# Altium footprint library WR-WTB_2.50mm.PcbLib: 24 footprints (part 1 of 2)
Each footprint in its own frame and in the unit in brackets; x right, y up, seen from the top. Pads: shape width x height; smd on the part's side, far side on the other; paste and mask are expansions set on the pad; w line width, h text height; cw(c..) or ccw(c..) is an arc to the next point about the centre after c.
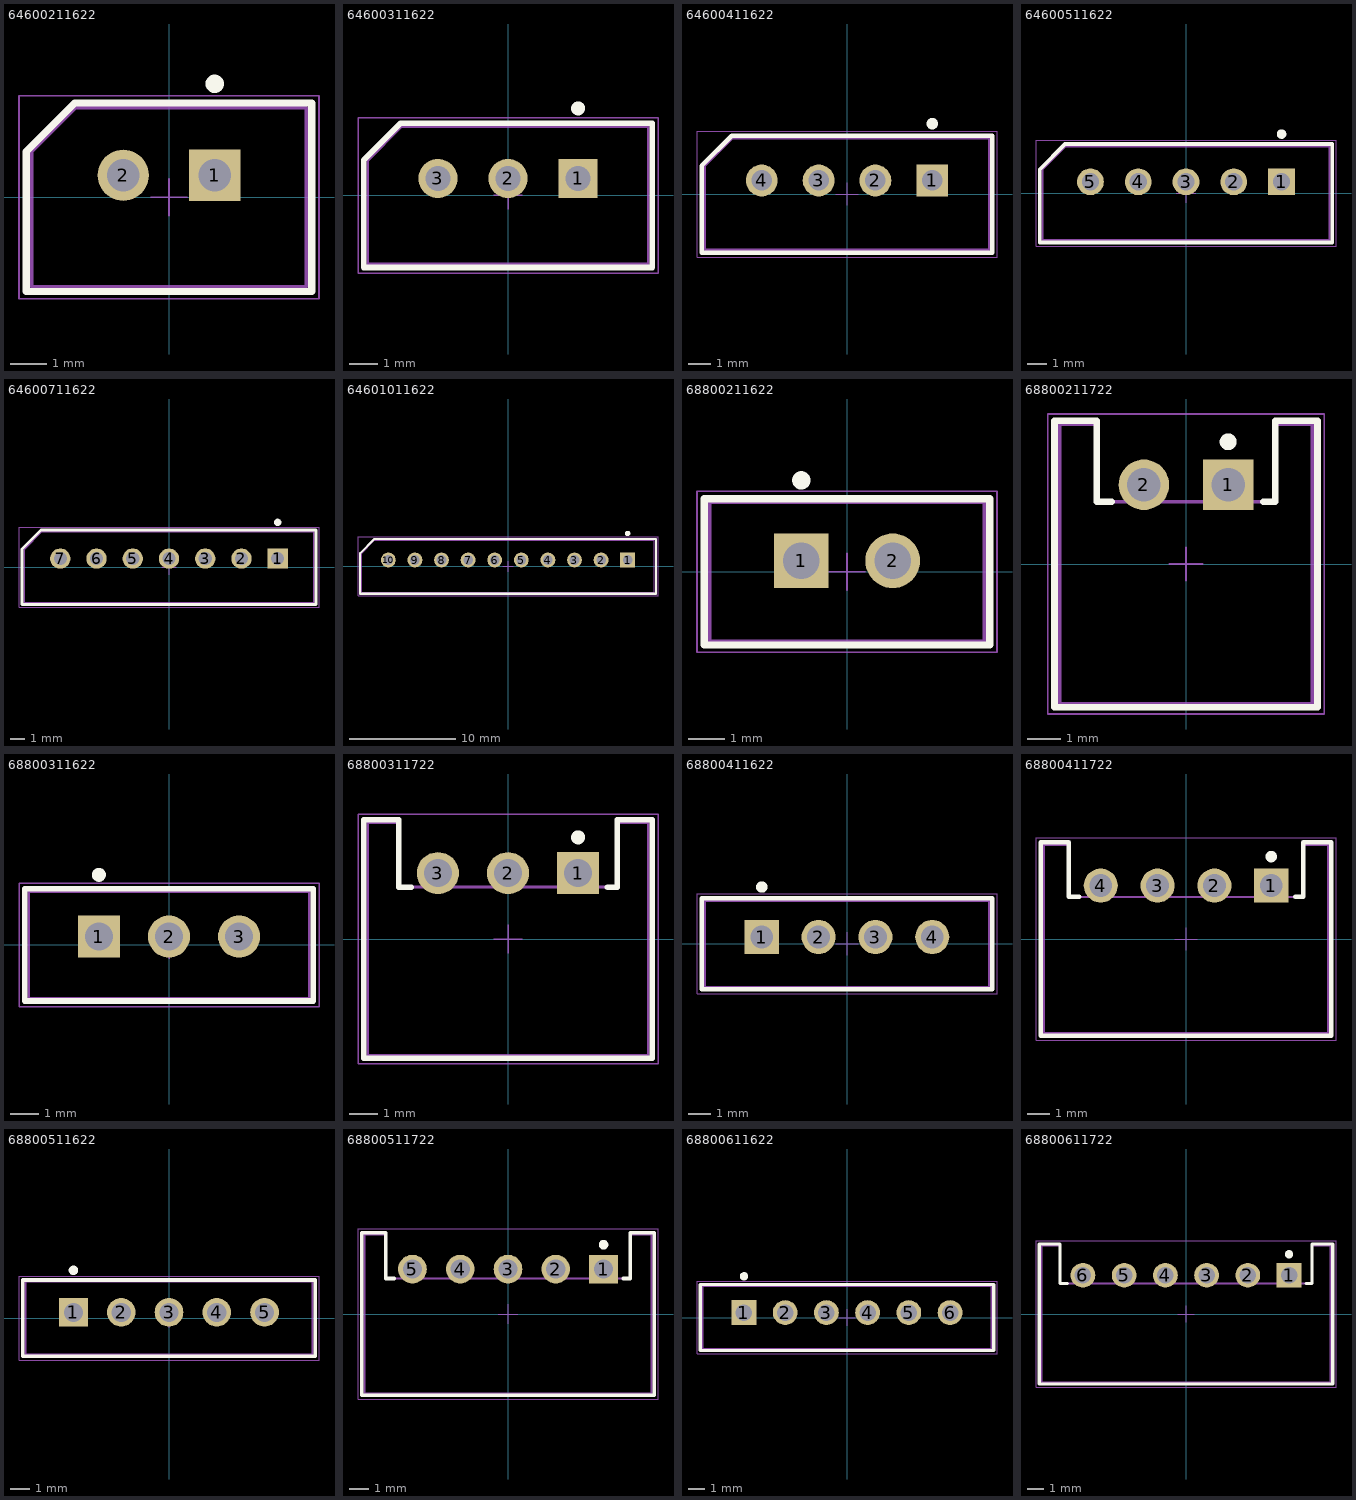
[diagram p0: the footprints below, top view; thin cyan lines are the x and y axes]

## 64600211622 [mm] "2.50mm Male Shrouded Header, 2p"
height 5.9
pads (2):
  rect 1.4x1.4 hole 0.9: 1(1.25,0.6)
  round 1.4 hole 0.9: 2(-1.25,0.6)
Top Overlay:
  circle w0.25: c1.25,3.1 r0.125
  lines w0.2: -3.9,-2.575 3.9,-2.575 3.9,2.575 -2.575,2.575 -3.9,1.25 -3.9,-2.575
Mechanical 13:
  lines w0.1: -3.75,-2.45 -3.75,1.25 -2.55,2.45 3.75,2.45 3.75,-2.45 -3.75,-2.45
Mechanical 15:
  lines w0.05: -0.5,0 0.5,0 ; 0,-0.5 0,0.5 ; -4.1,-2.775 -4.1,2.775 4.1,2.775 4.1,-2.775 -4.1,-2.775
3D body "64600211622 (rev1).stp": height 5.93, standoff -3.47, extent -3.7,-2.45 3.7,2.45

## 64600311622 [mm] "2.50mm Male Shrouded Header, 3p"
height 5.9
pads (3):
  rect 1.4x1.4 hole 0.9: 1(2.5,0.6)
  round 1.4 hole 0.9: 2(0,0.6) 3(-2.5,0.6)
Top Overlay:
  circle w0.25: c2.5,3.1 r0.125
  lines w0.2: -5.15,-2.575 -5.15,1.25 -3.825,2.575 5.15,2.575 5.15,-2.575 -5.15,-2.575
Mechanical 13:
  lines w0.1: -5,-2.45 5,-2.45 5,2.45 -3.8,2.45 -5,1.25 -5,-2.45
Mechanical 15:
  lines w0.05: -0.5,0 0.5,0 ; 0,-0.5 0,0.5 ; -5.35,-2.775 5.35,-2.775 5.35,2.775 -5.35,2.775 -5.35,-2.775
3D body "64600311622 (rev1).stp": height 5.93, standoff -3.47, extent -4.95,-2.45 4.95,2.45

## 64600411622 [mm] "2.50mm Male Shrouded Header, 4p"
height 5.9
pads (4):
  rect 1.4x1.4 hole 0.9: 1(3.75,0.6)
  round 1.4 hole 0.9: 2(1.25,0.6) 3(-1.25,0.6) 4(-3.75,0.6)
Top Overlay:
  circle w0.25: c3.75,3.1 r0.125
  lines w0.2: -6.4,-2.575 6.4,-2.575 6.4,2.575 -5.075,2.575 -6.4,1.25 -6.4,-2.575
Mechanical 13:
  lines w0.1: -6.25,-2.45 -6.25,1.25 -5.05,2.45 6.25,2.45 6.25,-2.45 -6.25,-2.45
Mechanical 15:
  lines w0.05: -0.5,0 0.5,0 ; 0,-0.5 0,0.5 ; -6.6,-2.775 -6.6,2.775 6.6,2.775 6.6,-2.775 -6.6,-2.775
3D body "64600411622 (rev1).stp": height 5.93, standoff -3.47, extent -6.2,-2.45 6.2,2.45

## 64600511622 [mm] "2.50mm Male Shrouded Header, 5p"
height 5.9
pads (5):
  rect 1.4x1.4 hole 0.9: 1(5,0.6)
  round 1.4 hole 0.9: 2(2.5,0.6) 3(0,0.6) 4(-2.5,0.6) 5(-5,0.6)
Top Overlay:
  circle w0.25: c5,3.1 r0.125
  lines w0.2: -7.65,-2.575 7.65,-2.575 7.65,2.575 -6.325,2.575 -7.65,1.25 -7.65,-2.575
Mechanical 13:
  lines w0.1: -7.5,-2.45 7.5,-2.45 7.5,2.45 -6.3,2.45 -7.5,1.25 -7.5,-2.45
Mechanical 15:
  lines w0.05: -0.5,0 0.5,0 ; 0,-0.5 0,0.5 ; -7.85,-2.775 -7.85,2.775 7.85,2.775 7.85,-2.775 -7.85,-2.775
3D body "64600511622 (rev1).stp": height 5.93, standoff -3.47, extent -7.45,-2.45 7.45,2.45

## 64600711622 [mm] "2.50mm Male Shrouded Header, 7p"
height 5.9
pads (7):
  rect 1.4x1.4 hole 0.9: 1(7.5,0.6)
  round 1.4 hole 0.9: 2(5,0.6) 3(2.5,0.6) 4(0,0.6) 5(-2.5,0.6) 6(-5,0.6) 7(-7.5,0.6)
Top Overlay:
  circle w0.25: c7.5,3.1 r0.125
  lines w0.2: -10.15,-2.575 -10.15,1.25 -8.825,2.575 10.15,2.575 10.15,-2.575 -10.15,-2.575
Mechanical 13:
  lines w0.1: -10,-2.45 10,-2.45 10,2.45 -8.8,2.45 -10,1.25 -10,-2.45
Mechanical 15:
  lines w0.05: -0.5,0 0.5,0 ; 0,-0.5 0,0.5 ; -10.35,-2.775 10.35,-2.775 10.35,2.775 -10.35,2.775 -10.35,-2.775
3D body "64600711622 (rev1).stp": height 5.93, standoff -3.47, extent -9.95,-2.45 9.95,2.45

## 64601011622 [mm] "2.50mm Male Shrouded Header, 10p"
height 5.9
pads (10):
  rect 1.4x1.4 hole 0.9: 1(11.25,0.6)
  round 1.4 hole 0.9: 2(8.75,0.6) 3(6.25,0.6) 4(3.75,0.6) 5(1.25,0.6) 6(-1.25,0.6) 7(-3.75,0.6) 8(-6.25,0.6) 9(-8.75,0.6) 10(-11.25,0.6)
Top Overlay:
  circle w0.25: c11.25,3.1 r0.125
  lines w0.2: -13.9,-2.575 -13.9,1.25 -12.575,2.575 13.9,2.575 13.9,-2.575 -13.9,-2.575
Mechanical 13:
  lines w0.1: -13.75,-2.45 13.75,-2.45 13.75,2.45 -12.55,2.45 -13.75,1.25 -13.75,-2.45
Mechanical 15:
  lines w0.05: -0.5,0 0.5,0 ; 0,-0.5 0,0.5 ; -14.1,-2.775 14.1,-2.775 14.1,2.775 -14.1,2.775 -14.1,-2.775
3D body "64601011622 (rev1).stp": height 5.93, standoff -3.47, extent -13.7,-2.45 13.7,2.45

## 68800211622 [mm] "2.50mm Ў°JЎ± Type Vertical Male Shrouded Header, 2p"
height 6
pads (2):
  rect 1.5x1.5 hole 1: 1(-1.25,0.3)
  round 1.5 hole 1: 2(1.25,0.3)
Top Overlay:
  circle w0.25: c-1.25,2.5 r0.125
  lines w0.2: -3.9,-2 -3.9,2 3.9,2 3.9,-2 -3.9,-2
Mechanical 13:
  lines w0.1: -3.75,-1.9 3.75,-1.9 3.75,1.9 -3.75,1.9 -3.75,-1.9
Mechanical 15:
  lines w0.05: -0.5,0 0.5,0 ; 0,-0.5 0,0.5 ; -4.1,-2.2 -4.1,2.2 4.1,2.2 4.1,-2.2 -4.1,-2.2
3D body "68800211622.stp": height 6.03, standoff -3.18, extent -3.75,-1.9 3.75,1.9

## 68800211722 [mm] "2.50mm Ў°JЎ± Type Male Horizontal Shrouded Header, 2p"
height 4.2
pads (2):
  rect 1.5x1.5 hole 1: 1(1.25,2.35)
  round 1.5 hole 1: 2(-1.25,2.35)
Top Overlay:
  circle w0.25: c1.25,3.625 r0.125
  lines w0.2: -2.2,1.85 -2.65,1.85 -2.65,4.25 -3.9,4.25 -3.9,-4.25 3.9,-4.25 3.9,4.25 2.65,4.25 2.65,1.85 2.3,1.85
Mechanical 13:
  lines w0.1: -3.75,-4.15 -3.75,4.15 -2.65,4.15 -2.65,1.85 2.65,1.85 2.65,4.15 3.75,4.15 3.75,-4.15 -3.75,-4.15
Mechanical 15:
  lines w0.05: -0.5,0 0.5,0 ; 0,-0.5 0,0.5 ; -4.1,-4.45 4.1,-4.45 4.1,4.45 -4.1,4.45 -4.1,-4.45
3D body "68800211722.stp": height 4.23, standoff -3.27, extent -3.75,-4.15 3.75,4.15

## 68800311622 [mm] "2.50mm Ў°JЎ± Type Vertical Male Shrouded Header, 3p"
height 6
pads (3):
  rect 1.5x1.5 hole 1: 1(-2.5,0.3)
  round 1.5 hole 1: 2(0,0.3) 3(2.5,0.3)
Top Overlay:
  circle w0.25: c-2.5,2.5 r0.125
  lines w0.2: -5.15,-2 5.15,-2 5.15,2 -5.15,2 -5.15,-2
Mechanical 13:
  lines w0.1: -5,-1.9 -5,1.9 5,1.9 5,-1.9 -5,-1.9
Mechanical 15:
  lines w0.05: -0.5,0 0.5,0 ; 0,-0.5 0,0.5 ; -5.35,-2.2 5.35,-2.2 5.35,2.2 -5.35,2.2 -5.35,-2.2
3D body "68800311622.stp": height 6.03, standoff -3.18, extent -5,-1.9 5,1.9

## 68800311722 [mm] "2.50mm Ў°JЎ± Type Male Horizontal Shrouded Header, 3p"
height 4.2
pads (3):
  rect 1.5x1.5 hole 1: 1(2.5,2.35)
  round 1.5 hole 1: 2(0,2.35) 3(-2.5,2.35)
Top Overlay:
  circle w0.25: c2.5,3.625 r0.125
  lines w0.2: -3.45,1.85 -3.9,1.85 -3.9,4.25 -5.15,4.25 -5.15,-4.25 5.15,-4.25 5.15,4.25 3.9,4.25 3.9,1.85 3.55,1.85
Mechanical 13:
  lines w0.1: -5,-4.15 -5,4.15 -3.9,4.15 -3.9,1.85 3.9,1.85 3.9,4.15 5,4.15 5,-4.15 -5,-4.15
Mechanical 15:
  lines w0.05: -0.5,0 0.5,0 ; 0,-0.5 0,0.5 ; -5.35,-4.45 5.35,-4.45 5.35,4.45 -5.35,4.45 -5.35,-4.45
3D body "68800311722.stp": height 4.23, standoff -3.27, extent -5,-4.15 5,4.15

## 68800411622 [mm] "2.50mm Ў°JЎ± Type Vertical Male Shrouded Header, 4p"
height 6
pads (4):
  rect 1.5x1.5 hole 1: 1(-3.75,0.3)
  round 1.5 hole 1: 2(-1.25,0.3) 3(1.25,0.3) 4(3.75,0.3)
Top Overlay:
  circle w0.25: c-3.75,2.5 r0.125
  lines w0.2: -6.4,-2 6.4,-2 6.4,2 -6.4,2 -6.4,-2
Mechanical 13:
  lines w0.1: -6.25,-1.9 -6.25,1.9 6.25,1.9 6.25,-1.9 -6.25,-1.9
Mechanical 15:
  lines w0.05: -0.5,0 0.5,0 ; 0,-0.5 0,0.5 ; -6.6,-2.2 6.6,-2.2 6.6,2.2 -6.6,2.2 -6.6,-2.2
3D body "68800411622.stp": height 6.03, standoff -3.18, extent -6.25,-1.9 6.25,1.9

## 68800411722 [mm] "2.50mm Ў°JЎ± Type Male Horizontal Shrouded Header, 4p"
height 4.2
pads (4):
  rect 1.5x1.5 hole 1: 1(3.75,2.35)
  round 1.5 hole 1: 2(1.25,2.35) 3(-1.25,2.35) 4(-3.75,2.35)
Top Overlay:
  circle w0.25: c3.75,3.625 r0.125
  lines w0.2: -4.7,1.85 -5.15,1.85 -5.15,4.25 -6.4,4.25 -6.4,-4.25 6.4,-4.25 6.4,4.25 5.15,4.25 5.15,1.85 4.8,1.85
Mechanical 13:
  lines w0.1: -6.25,-4.15 -6.25,4.15 -5.15,4.15 -5.15,1.85 5.15,1.85 5.15,4.15 6.25,4.15 6.25,-4.15 -6.25,-4.15
Mechanical 15:
  lines w0.05: -0.5,0 0.5,0 ; 0,-0.5 0,0.5 ; -6.6,-4.45 6.6,-4.45 6.6,4.45 -6.6,4.45 -6.6,-4.45
3D body "68800411722.stp": height 4.23, standoff -3.27, extent -6.25,-4.15 6.25,4.15

## 68800511622 [mm] "2.50mm Ў°JЎ± Type Vertical Male Shrouded Header, 5p"
height 6
pads (5):
  rect 1.5x1.5 hole 1: 1(-5,0.3)
  round 1.5 hole 1: 2(-2.5,0.3) 3(0,0.3) 4(2.5,0.3) 5(5,0.3)
Top Overlay:
  circle w0.25: c-5,2.5 r0.125
  lines w0.2: -7.65,-2 7.65,-2 7.65,2 -7.65,2 -7.65,-2
Mechanical 13:
  lines w0.1: -7.5,-1.9 -7.5,1.9 7.5,1.9 7.5,-1.9 -7.5,-1.9
Mechanical 15:
  lines w0.05: -0.5,0 0.5,0 ; 0,-0.5 0,0.5 ; -7.85,-2.2 7.85,-2.2 7.85,2.2 -7.85,2.2 -7.85,-2.2
3D body "68800511622.stp": height 6.03, standoff -3.18, extent -7.5,-1.9 7.5,1.9

## 68800511722 [mm] "2.50mm Ў°JЎ± Type Male Horizontal Shrouded Header, 5p"
height 4.2
pads (5):
  rect 1.5x1.5 hole 1: 1(5,2.35)
  round 1.5 hole 1: 2(2.5,2.35) 3(0,2.35) 4(-2.5,2.35) 5(-5,2.35)
Top Overlay:
  circle w0.25: c5,3.625 r0.125
  lines w0.2: -5.95,1.85 -6.4,1.85 -6.4,4.25 -7.65,4.25 -7.65,-4.25 7.65,-4.25 7.65,4.25 6.4,4.25 6.4,1.85 6.05,1.85
Mechanical 13:
  lines w0.1: -7.5,-4.15 7.5,-4.15 7.5,4.15 6.4,4.15 6.4,1.85 -6.4,1.85 -6.4,4.15 -7.5,4.15 -7.5,-4.15
Mechanical 15:
  lines w0.05: -0.5,0 0.5,0 ; 0,-0.5 0,0.5 ; -7.85,-4.45 -7.85,4.45 7.85,4.45 7.85,-4.45 -7.85,-4.45
3D body "68800511722.stp": height 4.23, standoff -3.27, extent -7.5,-4.15 7.5,4.15

## 68800611622 [mm] "2.50mm Ў°JЎ± Type Vertical Male Shrouded Header, 6p"
height 6
pads (6):
  rect 1.5x1.5 hole 1: 1(-6.25,0.3)
  round 1.5 hole 1: 2(-3.75,0.3) 3(-1.25,0.3) 4(1.25,0.3) 5(3.75,0.3) 6(6.25,0.3)
Top Overlay:
  circle w0.25: c-6.25,2.5 r0.125
  lines w0.2: -8.9,-2 -8.9,2 8.9,2 8.9,-2 -8.9,-2
Mechanical 13:
  lines w0.1: -8.75,-1.9 8.75,-1.9 8.75,1.9 -8.75,1.9 -8.75,-1.9
Mechanical 15:
  lines w0.05: -0.5,0 0.5,0 ; 0,-0.5 0,0.5 ; -9.1,-2.2 -9.1,2.2 9.1,2.2 9.1,-2.2 -9.1,-2.2
3D body "68800611622.stp": height 6.03, standoff -3.18, extent -8.75,-1.9 8.75,1.9

## 68800611722 [mm] "2.50mm Ў°JЎ± Type Male Horizontal Shrouded Header, 6p"
height 4.2
pads (6):
  rect 1.5x1.5 hole 1: 1(6.25,2.35)
  round 1.5 hole 1: 2(3.75,2.35) 3(1.25,2.35) 4(-1.25,2.35) 5(-3.75,2.35) 6(-6.25,2.35)
Top Overlay:
  circle w0.25: c6.25,3.625 r0.125
  lines w0.2: -7.2,1.85 -7.65,1.85 -7.65,4.25 -8.9,4.25 -8.9,-4.25 8.9,-4.25 8.9,4.25 7.65,4.25 7.65,1.85 7.3,1.85
Mechanical 13:
  lines w0.1: -8.75,-4.15 8.75,-4.15 8.75,4.15 7.65,4.15 7.65,1.85 -7.65,1.85 -7.65,4.15 -8.75,4.15 -8.75,-4.15
Mechanical 15:
  lines w0.05: -0.5,0 0.5,0 ; 0,-0.5 0,0.5 ; -9.1,-4.45 -9.1,4.45 9.1,4.45 9.1,-4.45 -9.1,-4.45
3D body "68800611722.stp": height 4.23, standoff -3.27, extent -8.75,-4.15 8.75,4.15